# Altium footprint library Amphenol USB-A.PcbLib: 1 footprints
Each footprint in its own frame and in the unit in brackets; x right, y up, seen from the top. Pads: shape width x height; smd on the part's side, far side on the other; paste and mask are expansions set on the pad; w line width, h text height; cw(c..) or ccw(c..) is an arc to the next point about the centre after c.
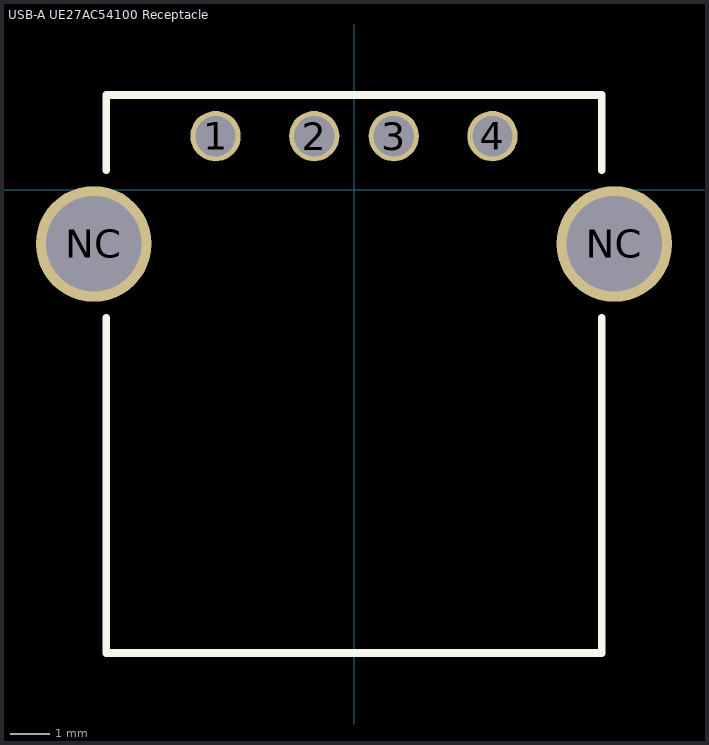
[diagram p0: the footprint, top view; thin cyan lines are the x and y axes]

## USB-A UE27AC54100 Receptacle [mil]
pads (6):
  round 50 hole 40: 1(-137.5,53.5) 2(-39.5,53.5) 3(39.5,53.5) 4(137.5,53.5)
  round 115 hole 95: NC(-258.5,-53.5) NC(258.5,-53.5)
Top Overlay:
  lines w7.87: -246.06,-126.97 -246.06,-460 246.06,-460 246.06,-126.97 ; -246.06,19.68 -246.06,94.49 246.06,94.49 246.06,19.68
3D body "480370001.stp": height 188.58, standoff -46.46, extent -249.93,-735.08 249.94,53.31